# Altium schematic symbol library SCH - POWER - LINEAR VREG - TI TPS723-Q1DBV.SchLib: 1 symbol
Pins are listed as number, name and electrical type; pins without a type are passive.

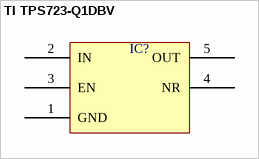
[diagram p0: symbol TI TPS723-Q1DBV]

## TI TPS723-Q1DBV
designator IC?  (value not drawn)
pins: 1 GND, 2 IN, 3 EN, 4 NR, 5 OUT